# Altium integrated library UPM1C152MHD.IntLib: 1 symbol
Pins are listed as number, name and electrical type; pins without a type are passive.

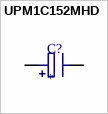
[diagram p0: symbol UPM1C152MHD]

## UPM1C152MHD
designator C?
1500ÂµF 16V Aluminum Electrolytic Capacitors Radial, Can 5000 Hrs @ 105Â°C; MF: Nichicon; MP: UPM1C152MHD; Price: None; SnapEDA_Link: https://www.snapeda.com/parts/UPM1C152MHD/Nichicon/view-part/2322603/?ref=snap; Purchase-URL: https://pricing.snapeda.com/search/part/UPM1C152MHD/?ref=eda; Package: Radial Nichicon; Value: *; Availability: Warning; Check_prices: https://www.snapeda.com/parts/UPM1C152MHD/Nichicon/view-part/2322603/?ref=eda
footprint SMA/DO-214AC_DTC
pins: N, P